# Altium footprint library SOIC127P1030X265-18N.PcbLib: 1 footprints
Each footprint in its own frame and in the unit in brackets; x right, y up, seen from the top. Pads: shape width x height; smd on the part's side, far side on the other; paste and mask are expansions set on the pad; w line width, h text height; cw(c..) or ccw(c..) is an arc to the next point about the centre after c.
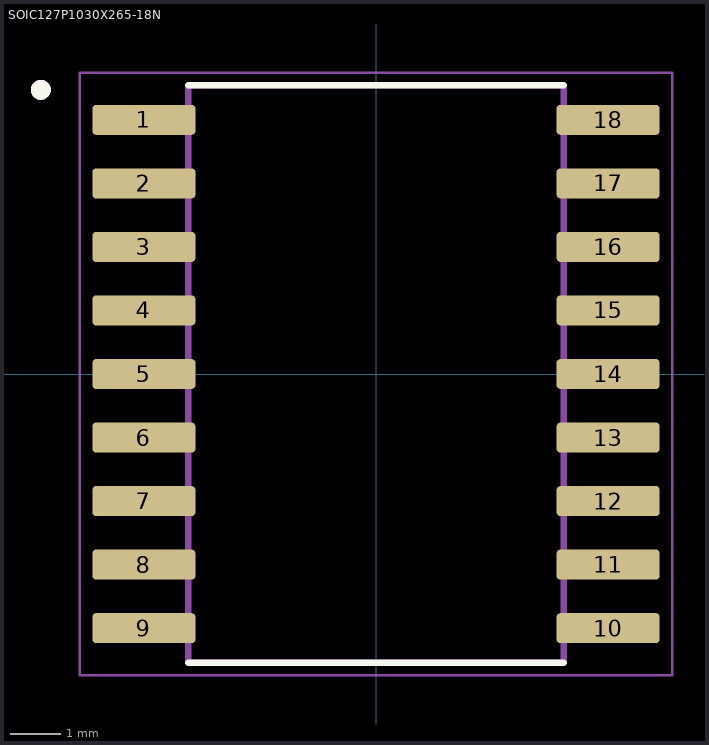
[diagram p0: the footprint, top view; thin cyan lines are the x and y axes]

## SOIC127P1030X265-18N [mm]
pads (18):
  rrect25% 2.06x0.6 smd: 1(-4.64,5.08) 2(-4.64,3.81) 3(-4.64,2.54) 4(-4.64,1.27) 5(-4.64,0) 6(-4.64,-1.27) 7(-4.64,-2.54) 8(-4.64,-3.81) 9(-4.64,-5.08) 10(4.64,-5.08) 11(4.64,-3.81) 12(4.64,-2.54) 13(4.64,-1.27) 14(4.64,0) 15(4.64,1.27) 16(4.64,2.54) 17(4.64,3.81) 18(4.64,5.08)
Top Overlay:
  circle w0.2: c-6.7,5.68 r0.1
  lines w0.127: -3.75,-5.775 3.75,-5.775 ; -3.75,5.775 3.75,5.775
Mechanical 13:
  circle w0.2: c-6.7,5.68 r0.1
  lines w0.127: -3.75,-5.775 -3.75,5.775 3.75,5.775 3.75,-5.775 -3.75,-5.775
Mechanical 15:
  lines w0.05: -5.92,-6.025 -5.92,6.025 5.92,6.025 5.92,-6.025 -5.92,-6.025
3D body "step_temp.STEP": height 2.65, standoff 0, extent -5.15,-5.775 5.15,5.775